# Altium schematic symbol library Modules.SchLib: 4 symbols
Pins are listed as number, name and electrical type; pins without a type are passive.

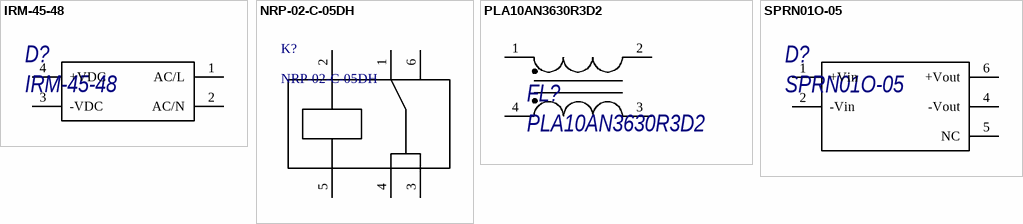
[diagram p0: symbols IRM-45-48 to SPRN01O-05]

## IRM-45-48
designator D?
IRM-45-48, AC/DC преобразователь; link: https://www.chipdip.ru/product0/8001536163
footprint IRM-45-48
pins: 1 AC/L, 2 AC/N, 3 -VDC, 4 +VDC

## NRP-02-C-05DH
designator K?
NRP-02-C-05DH, Реле 1 переключ. 5VDC, 3A/125VAC SPDT; link: https://www.chipdip.ru/product/nrp-02-c-05dh
footprint NRP-02-C-05DH
pins: 1 IN1, 2 CTRL1, 3 OUT, 4 OUT, 5 CTRL2, 6 IN2

## PLA10AN3630R3D2
designator FL?
PLA10AN3630R3D2, 36 мГн, 0.3А 300В, Фильтр подавления ЭМП; link: https://www.chipdip.ru/product/pla10an3630r3d2
footprint PLA10AN3630R3D2
pins: 1, 2, 3, 4

## SPRN01O-05
designator D?
SPRN01O-05, DC/DC преобразователь 48 В - 5 В; ComponentLink1Description: link; ComponentLink1URL: https://www.chipdip.ru/product0/8001693985
footprint SPRN01O-05
pins: 1 +Vin, 2 -Vin, 4 -Vout, 5 NC, 6 +Vout